# Altium schematic symbol library SerialNumber.Schlib: 1 symbol
Pins are listed as number, name and electrical type; pins without a type are passive.

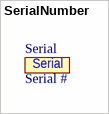
[diagram p0: symbol SerialNumber]

## SerialNumber
designator Serial, comment Serial #
Empty serial number of the PCB. Can be used for manually writing the serial number